# Altium integrated library TRANS_FDMS0300S.IntLib: 1 symbol
Pins are listed as number, name and electrical type; pins without a type are passive.

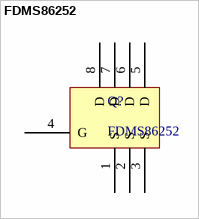
[diagram p0: symbol FDMS86252]

## FDMS86252
designator Q?
footprint *TRANS_FDMS0300S
pins: 1 S, 2 S, 3 S, 4 G, 5 D, 6 D, 7 D, 8 D